# Altium footprint library DC-DC_Bridge.PcbLib: 1 footprints
Each footprint in its own frame and in the unit in brackets; x right, y up, seen from the top. Pads: shape width x height; smd on the part's side, far side on the other; paste and mask are expansions set on the pad; w line width, h text height; cw(c..) or ccw(c..) is an arc to the next point about the centre after c.
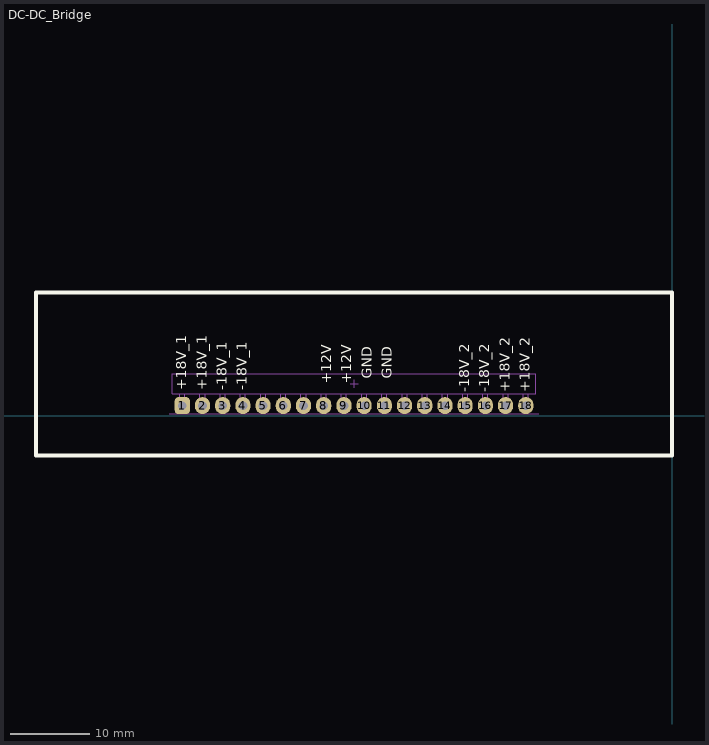
[diagram p0: the footprint, top view; thin cyan lines are the x and y axes]

## DC-DC_Bridge [mil]
pads (18):
  rrect50% 75x85 hole 43.31: 1(-2425,50.94)
  oval 75x85 hole 43.31: 2(-2325,50.94) 3(-2225,50.94) 4(-2125,50.94) 5(-2025,50.94) 6(-1925,50.94) 7(-1825,50.94) 8(-1725,50.94) 9(-1625,50.94) 10(-1525,50.94) 11(-1425,50.94) 12(-1325,50.94) 13(-1225,50.94) 14(-1125,50.94) 15(-1025,50.94) 16(-925,50.94) 17(-825,50.94) 18(-725,50.94)
Top Overlay:
  lines w19.68: -3150,-195 -0.39,-195 -0.39,610.12 -3150,610.12 -3150,-195
  text "+12V" at -1587.87,159.48 h51.18
  text "GND" at -1487.87,184.7 h51.18
  text "GND" at -1387.87,184.7 h51.18
  text "+12V" at -1687.87,159.48 h51.18
  text "-18V_2" at -1004.93,116.35 h51.18
  text "-18V_2" at -904.93,116.35 h51.18
  text "+18V_2" at -804.93,116.35 h51.18
  text "+18V_2" at -704.93,116.35 h51.18
  text "+18V_1" at -2404.93,127.31 h51.18
  text "+18V_1" at -2304.93,127.31 h51.18
  text "-18V_1" at -2204.93,127.31 h51.18
  text "-18V_1" at -2104.93,127.31 h51.18
Bottom Overlay:
  text "+18V_1" at -2404.93,371.74 h51.18
  text "+18V_1" at -2304.93,371.74 h51.18
  text "-18V_1" at -2204.93,371.74 h51.18
  text "-18V_1" at -2104.93,371.74 h51.18
  text "+12V" at -1687.87,339.58 h51.18
  text "+12V" at -1587.87,339.58 h51.18
  text "GND" at -1487.87,314.36 h51.18
  text "GND" at -1387.87,314.36 h51.18
  text "-18V_2" at -1004.93,382.71 h51.18
  text "-18V_2" at -904.93,382.71 h51.18
  text "+18V_2" at -804.93,382.71 h51.18
  text "+18V_2" at -704.93,382.71 h51.18
Top Component Outline:
  lines w3.94: -2437.6,110 -2437.6,38.35 -2412.4,38.35 -2412.4,110 ; -2337.6,110 -2337.6,38.35 -2312.4,38.35 -2312.4,110 ; -2237.6,110 -2237.6,38.35 -2212.4,38.35 -2212.4,110 ; -2137.6,110 -2137.6,38.35 -2112.4,38.35 -2112.4,110 ; -2037.6,110 -2037.6,38.35 -2012.4,38.35 -2012.4,110 ; -1937.6,110 -1937.6,38.35 -1912.4,38.35 -1912.4,110 ; -1837.6,110 -1837.6,38.35 -1812.4,38.35 -1812.4,110 ; -1737.6,110 -1737.6,38.35 -1712.4,38.35 -1712.4,110 ; -1637.6,110 -1637.6,38.35 -1612.4,38.35 -1612.4,110 ; -1537.6,110 -1537.6,38.35 -1512.4,38.35 -1512.4,110 ; -1437.6,110 -1437.6,38.35 -1412.4,38.35 -1412.4,110 ; -1337.6,110 -1337.6,38.35 -1312.4,38.35 -1312.4,110 ; -1237.6,110 -1237.6,38.35 -1212.4,38.35 -1212.4,110 ; -1137.6,110 -1137.6,38.35 -1112.4,38.35 -1112.4,110 ; -1037.6,110 -1037.6,38.35 -1012.4,38.35 -1012.4,110 ; -937.6,110 -937.6,38.35 -912.4,38.35 -912.4,110 ; -837.6,110 -837.6,38.35 -812.4,38.35 -812.4,110 ; -737.6,110 -737.6,38.35 -712.4,38.35 -712.4,110 ; -2475,110 -2475,210 -675,210 -675,110 -2475,110
Top 3D Body:
  lines w3.94: -2437.6,110 -2437.6,38.35 -2412.4,38.35 -2412.4,110 ; -2337.6,110 -2337.6,38.35 -2312.4,38.35 -2312.4,110 ; -2237.6,110 -2237.6,38.35 -2212.4,38.35 -2212.4,110 ; -2137.6,110 -2137.6,38.35 -2112.4,38.35 -2112.4,110 ; -2037.6,110 -2037.6,38.35 -2012.4,38.35 -2012.4,110 ; -1937.6,110 -1937.6,38.35 -1912.4,38.35 -1912.4,110 ; -1837.6,110 -1837.6,38.35 -1812.4,38.35 -1812.4,110 ; -1737.6,110 -1737.6,38.35 -1712.4,38.35 -1712.4,110 ; -1637.6,110 -1637.6,38.35 -1612.4,38.35 -1612.4,110 ; -1537.6,110 -1537.6,38.35 -1512.4,38.35 -1512.4,110 ; -1437.6,110 -1437.6,38.35 -1412.4,38.35 -1412.4,110 ; -1337.6,110 -1337.6,38.35 -1312.4,38.35 -1312.4,110 ; -1237.6,110 -1237.6,38.35 -1212.4,38.35 -1212.4,110 ; -1137.6,110 -1137.6,38.35 -1112.4,38.35 -1112.4,110 ; -1037.6,110 -1037.6,38.35 -1012.4,38.35 -1012.4,110 ; -937.6,110 -937.6,38.35 -912.4,38.35 -912.4,110 ; -837.6,110 -837.6,38.35 -812.4,38.35 -812.4,110 ; -737.6,110 -737.6,38.35 -712.4,38.35 -712.4,110 ; -675,110 -2475,110 -2475,210 -675,210
Top Courtyard:
  lines w1.97: -2488.78,10.59 -661.22,10.59 ; -1594.68,160 -1555.32,160 ; -1575,140.31 -1575,179.69
3D body "DC-DC_Bridge.step": height 3307.09, standoff -81.49, extent -3149.61,-192.58 0,610.24